# Altium footprint library 691214110002S.PcbLib: 1 footprints
Each footprint in its own frame and in the unit in brackets; x right, y up, seen from the top. Pads: shape width x height; smd on the part's side, far side on the other; paste and mask are expansions set on the pad; w line width, h text height; cw(c..) or ccw(c..) is an arc to the next point about the centre after c.
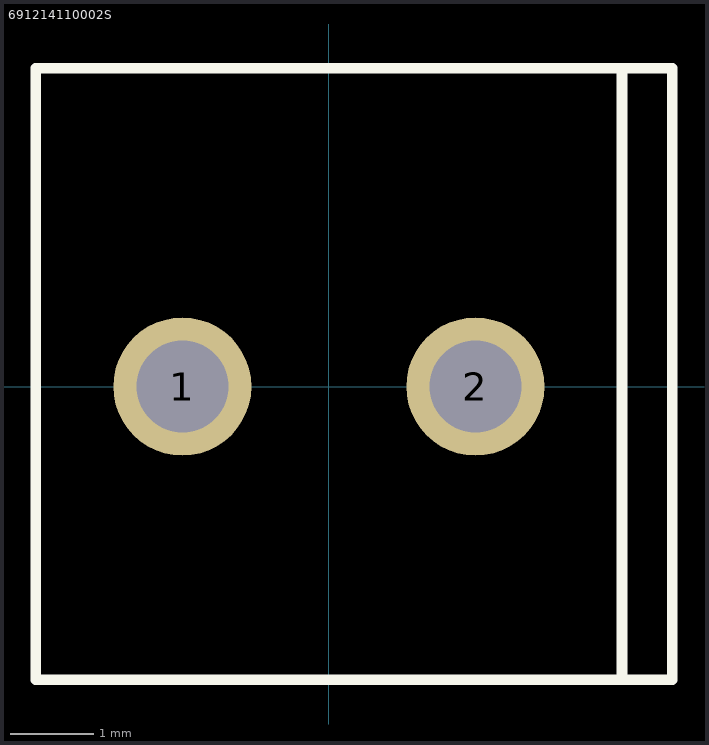
[diagram p0: the footprint, top view; thin cyan lines are the x and y axes]

## 691214110002S [mm]
pads (2):
  round 1.65 hole 1.1: 1(-1.75,0) 2(1.75,0)
Top Overlay:
  lines w0.127: 3.5,-3.5 -3.5,-3.5 -3.5,3.8 3.5,3.8 ; 3.5,-3.5 4.1,-3.5 4.1,3.8 3.5,3.8 ; 3.5,-3.5 3.5,3.8